# Altium footprint library misc.PcbLib: 5 footprints
Each footprint in its own frame and in the unit in brackets; x right, y up, seen from the top. Pads: shape width x height; smd on the part's side, far side on the other; paste and mask are expansions set on the pad; w line width, h text height; cw(c..) or ccw(c..) is an arc to the next point about the centre after c.
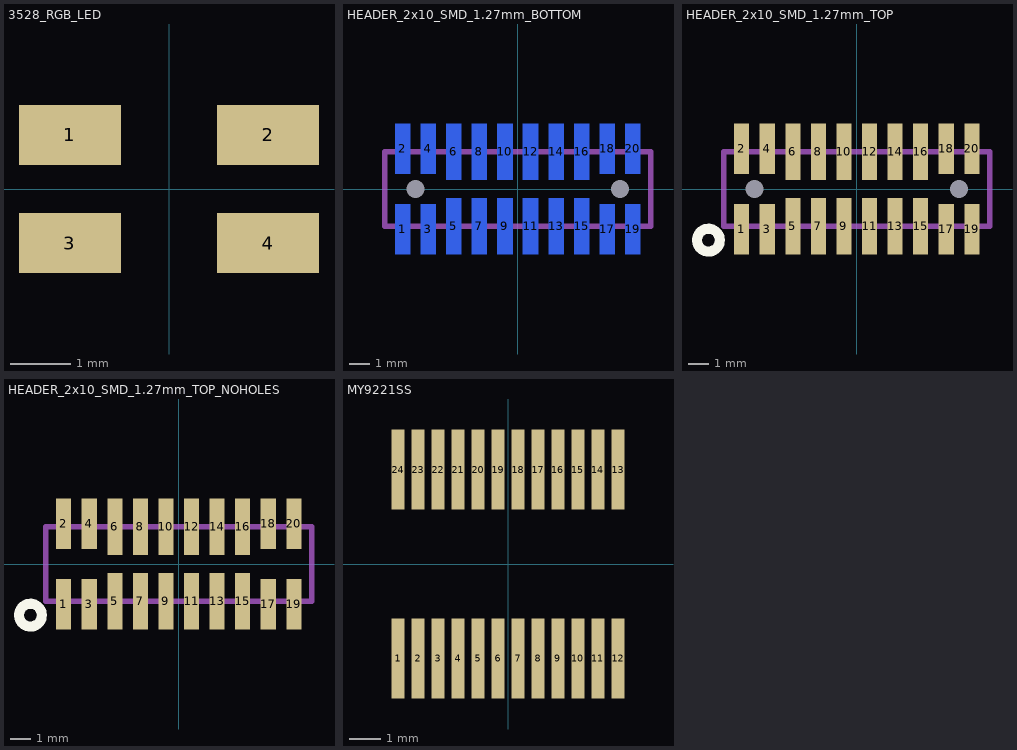
[diagram p0: the footprints below, top view; thin cyan lines are the x and y axes]

## 3528_RGB_LED [mm] "3528 RGB LED"
pads (4):
  rect 1.7x1 smd: 1(-1.65,0.9) 2(1.65,0.9) 3(-1.65,-0.9) 4(1.65,-0.9)

## HEADER_2x10_SMD_1.27mm_BOTTOM [mm]
pads (22):
  rect 0.75x2.5 smd far side: 1(-5.715,-2) 2(-5.715,2) 3(-4.445,-2) 4(-4.445,2) 17(4.445,-2) 18(4.445,2) 19(5.715,-2) 20(5.715,2)
  rect 0.75x2.8 smd far side: 5(-3.175,-1.85) 6(-3.175,1.85) 7(-1.905,-1.85) 8(-1.905,1.85) 9(-0.635,-1.85) 10(-0.635,1.85) 11(0.635,-1.85) 12(0.635,1.85) 13(1.905,-1.85) 14(1.905,1.85) 15(3.175,-1.85) 16(3.175,1.85)
  round 0 hole 0.9 unplated: 21(-5.08,0) 22(5.08,0)
Bottom Overlay:
  circle w0.5: c-7.366,-2.54 r0.568
Mechanical 2:
  lines w0.254: -6.604,-1.85 6.604,-1.85 6.604,1.85 -6.604,1.85 -6.604,0.671 -6.604,-0.671 -6.604,-1.85

## HEADER_2x10_SMD_1.27mm_TOP [mm]
pads (22):
  rect 0.75x2.5 smd: 1(-5.715,-2) 2(-5.715,2) 3(-4.445,-2) 4(-4.445,2) 17(4.445,-2) 18(4.445,2) 19(5.715,-2) 20(5.715,2)
  rect 0.75x2.8 smd: 5(-3.175,-1.85) 6(-3.175,1.85) 7(-1.905,-1.85) 8(-1.905,1.85) 9(-0.635,-1.85) 10(-0.635,1.85) 11(0.635,-1.85) 12(0.635,1.85) 13(1.905,-1.85) 14(1.905,1.85) 15(3.175,-1.85) 16(3.175,1.85)
  round 0 hole 0.9 unplated: 21(-5.08,0) 22(5.08,0)
Top Overlay:
  circle w0.5: c-7.366,-2.54 r0.568
Mechanical 1:
  lines w0.254: -6.604,-1.85 -6.604,-0.671 -6.604,0.671 -6.604,1.85 6.604,1.85 6.604,-1.85 -6.604,-1.85

## HEADER_2x10_SMD_1.27mm_TOP_NOHOLES [mm]
pads (20):
  rect 0.75x2.5 smd: 1(-5.715,-2) 2(-5.715,2) 3(-4.445,-2) 4(-4.445,2) 17(4.445,-2) 18(4.445,2) 19(5.715,-2) 20(5.715,2)
  rect 0.75x2.8 smd: 5(-3.175,-1.85) 6(-3.175,1.85) 7(-1.905,-1.85) 8(-1.905,1.85) 9(-0.635,-1.85) 10(-0.635,1.85) 11(0.635,-1.85) 12(0.635,1.85) 13(1.905,-1.85) 14(1.905,1.85) 15(3.175,-1.85) 16(3.175,1.85)
Top Overlay:
  circle w0.5: c-7.366,-2.54 r0.568
Mechanical 1:
  lines w0.254: -6.604,-1.85 6.604,-1.85 6.604,1.85 -6.604,1.85 -6.604,0.671 -6.604,-0.671 -6.604,-1.85

## MY9221SS [mil] "LED driver SSOP-24 package"
pads (24):
  rect 16x100 smd: 1(-137.5,-118) 2(-112.5,-118) 3(-87.5,-118) 4(-62.5,-118) 5(-37.5,-118) 6(-12.5,-118) 7(12.5,-118) 8(37.5,-118) 9(62.5,-118) 10(87.5,-118) 11(112.5,-118) 12(137.5,-118) 13(137.5,118) 14(112.5,118) 15(87.5,118) 16(62.5,118) 17(37.5,118) 18(12.5,118) 19(-12.5,118) 20(-37.5,118) 21(-62.5,118) 22(-87.5,118) 23(-112.5,118) 24(-137.5,118)